# Altium footprint library Header.PcbLib: 1 footprints
Each footprint in its own frame and in the unit in brackets; x right, y up, seen from the top. Pads: shape width x height; smd on the part's side, far side on the other; paste and mask are expansions set on the pad; w line width, h text height; cw(c..) or ccw(c..) is an arc to the next point about the centre after c.
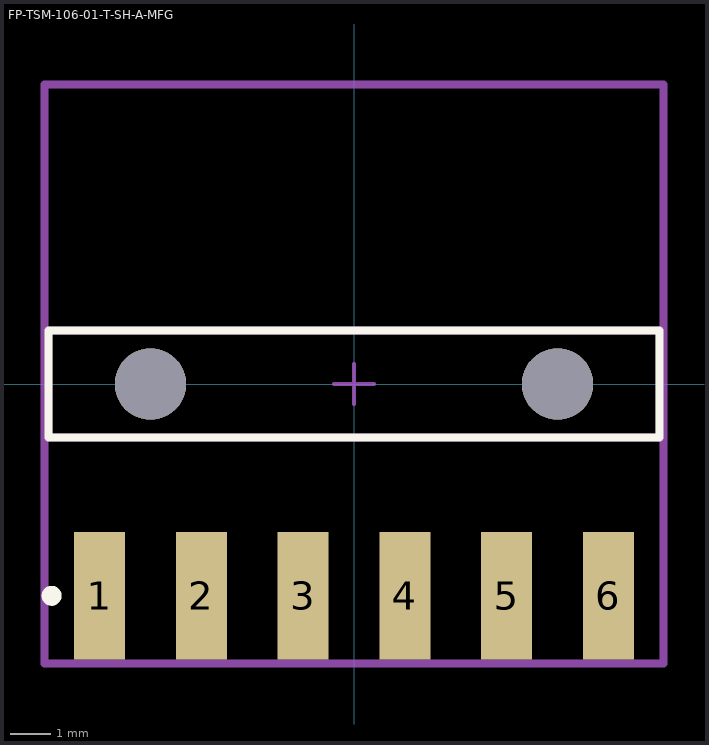
[diagram p0: the footprint, top view; thin cyan lines are the x and y axes]

## FP-TSM-106-01-T-SH-A-MFG [mm]
pads (8):
  rect 1.27x3.18 smd paste+0 mask+0: 1(-6.35,-5.283) 2(-3.81,-5.283) 3(-1.27,-5.283) 4(1.27,-5.283) 5(3.81,-5.283) 6(6.35,-5.283)
  round 1.78 hole 1.78 unplated paste-2539.97 mask+0: ""(-5.08,0) ""(5.08,0)
Top Overlay:
  circle w0.25: c-7.545,-5.283 r0.125
  lines w0.2: -7.62,-1.335 -7.62,1.335 7.62,1.335 7.62,-1.335 -7.62,-1.335
Top Assembly:
  lines w0.2: -7.72,-6.973 -7.72,7.475 7.72,7.475 7.72,-6.973 -7.72,-6.973
  text ".Designator" at 0,0.439 h1
Top 3D Body:
  lines w0.2: -7.62,-1.335 -7.62,1.335 7.62,1.335 7.62,-1.335 -7.62,-1.335
Top Courtyard:
  lines w0.2: -7.72,-6.973 -7.72,7.475 7.72,7.475 7.72,-6.973 -7.72,-6.973
Top Component Center:
  lines w0.1: -0.5,0 0.5,0 ; 0,-0.5 0,0.5
3D body "Conn_Samtec_TSM-106-01-T-SH-A_eec.STEP": height 0.25, standoff 0, extent -7.72,-6.973 7.72,7.475